# Altium footprint library S 散热器.PcbLib: 5 footprints
Each footprint in its own frame and in the unit in brackets; x right, y up, seen from the top. Pads: shape width x height; smd on the part's side, far side on the other; paste and mask are expansions set on the pad; w line width, h text height; cw(c..) or ccw(c..) is an arc to the next point about the centre after c.
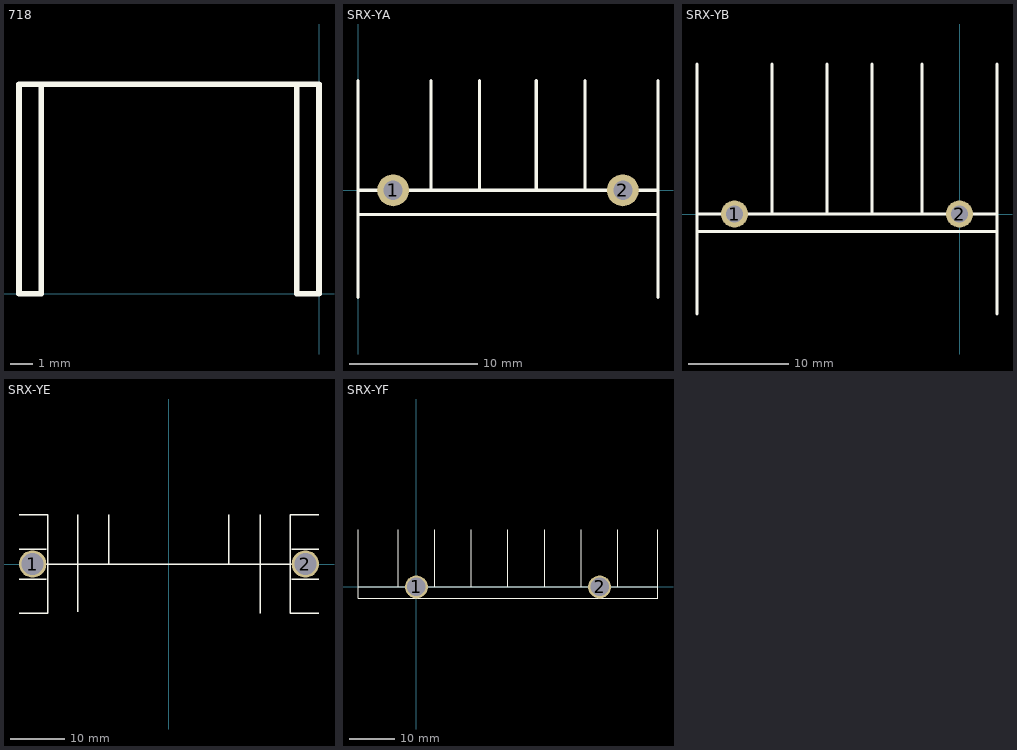
[diagram p0: the footprints below, top view; thin cyan lines are the x and y axes]

## 718 [mm]
Top Overlay:
  lines w0.254: -12.6,9.5 -12.6,0 -13.6,0 -13.6,9.5 0,9.5 0,0 -1,0 -1,9.5

## SRX-YA [mm] "SRX-YA"
pads (2):
  round 2.5 hole 1.5: 1(2.75,0) 2(20.75,0)
Top Overlay:
  lines w0.254: 0,-8.397 0,8.603 ; 0,-1.897 23.5,-1.897 ; 0,0 23.5,0 ; 5.715,0 5.715,8.603 ; 9.525,0 9.525,8.603 ; 13.97,0 13.97,8.603 ; 17.78,0 17.78,8.603 ; 23.5,-8.392 23.5,0 ; 23.5,8.603 23.5,0

## SRX-YB [mm]
pads (2):
  round 2.7 hole 1.7: 1(-22.5,0) 2(0,0)
Top Overlay:
  lines w0.254: -26.25,-10 -26.25,0 ; -26.25,-1.75 3.75,-1.75 ; -26.25,15 -26.25,0 ; -18.75,0 -18.75,15 ; -13.25,0 -13.25,15 ; -8.75,0 -8.75,15 ; -3.75,0 -3.75,15 ; 3.75,-10 3.75,0 ; 3.75,15 3.75,0 ; -26.25,0 0,0 3.75,0

## SRX-YE [mm]
pads (2):
  round 5 hole 4: 1(-25,0) 2(25,0)
Top Overlay:
  lines w0.254: -27.5,-9 -22.25,-9 -22.25,0.25 -22.25,9 -27.5,9 ; -27.5,-2.75 -22.5,-2.75 ; -27.5,2.75 -22.5,2.75 ; -25,0 25,0 25.25,-0.25 ; -16.75,-8.75 -16.75,0 -16.75,9 ; -11,0 -11,9 ; 11,0 11,9 ; 16.75,-9 16.75,9 ; 22.5,-2.75 27.5,-2.75 ; 22.5,2.75 27.5,2.75 ; 27.5,-9 22.25,-9 22.25,9 27.5,9

## SRX-YF [mm]
pads (2):
  round 5 hole 4: 1(0,0) 2(40,0)
Top Overlay:
  lines w0.254: -12.75,12.5 -12.75,0 ; -4,0 -4,12.5 ; 4,0 4,12.5 ; 12,0 12,12.5 ; 20,0 20,12.5 ; 28,0 28,12.5 ; 36,0 36,12.5 ; 44,0 44,12.5 ; 52.75,0 40,0 0,0 -12.75,0 ; 52.75,12.5 52.75,-2.5 -12.75,-2.5 -12.75,0